# Altium footprint library LED_RGB.PcbLib: 1 footprints
Each footprint in its own frame and in the unit in brackets; x right, y up, seen from the top. Pads: shape width x height; smd on the part's side, far side on the other; paste and mask are expansions set on the pad; w line width, h text height; cw(c..) or ccw(c..) is an arc to the next point about the centre after c.
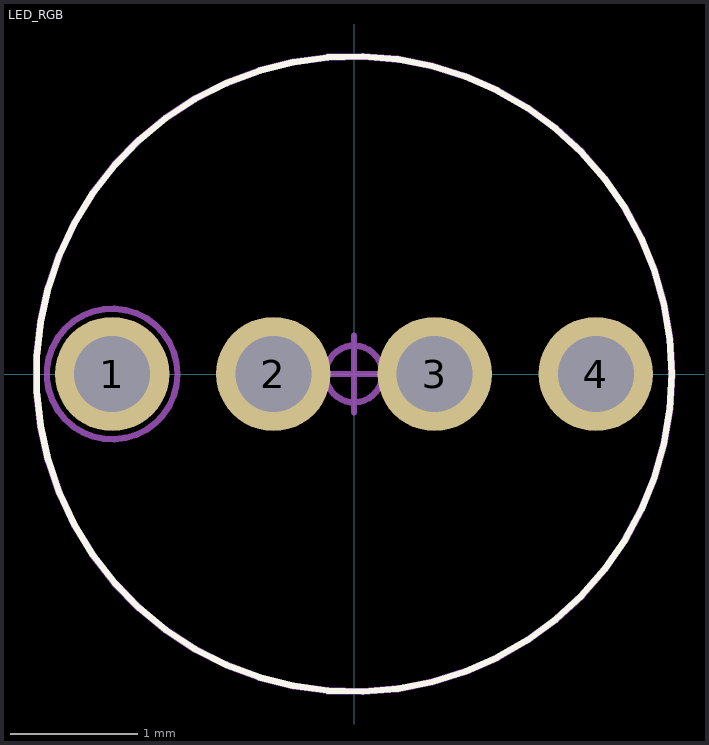
[diagram p0: the footprint, top view; thin cyan lines are the x and y axes]

## LED_RGB [mm]
pads (4):
  round 0.9 hole 0.6 mask+0: 1(-1.905,0) 2(-0.635,0) 3(0.635,0) 4(1.905,0)
Top Overlay:
  circle w0.05: c0,0 r2.502
Mechanical 3:
  circle w0.05: c0,0 r2.506
Mechanical 5:
  circle w0.05: c-1.905,0 r0.414
  circle w0.05: c0.635,0 r0.405
  circle w0.05: c-0.635,0 r0.402
  circle w0.05: c1.905,0 r0.4
Mechanical 7:
  circle w0.05: c0,0 r0.224
  circle w0.05: c0,0 r2.5
  lines w0.05: -0.3,0 0.3,0 ; 0,-0.3 0,0.3
Mechanical 9:
  circle w0.05: c-1.905,0 r0.515
  text "'.Designator'" at -4.8,-1.6 h1
3D body: height 1, standoff 0, extent -2.5,-2.497 2.5,2.497
3D body "Led RGB 5mm.STEP": height 8.8, standoff -2, extent -2.7,-2.9 2.9,2.9